# Altium footprint library Footprint_library.PcbLib: 95 footprints (part 2 of 6)
Each footprint in its own frame and in the unit in brackets; x right, y up, seen from the top. Pads: shape width x height; smd on the part's side, far side on the other; paste and mask are expansions set on the pad; w line width, h text height; cw(c..) or ccw(c..) is an arc to the next point about the centre after c.
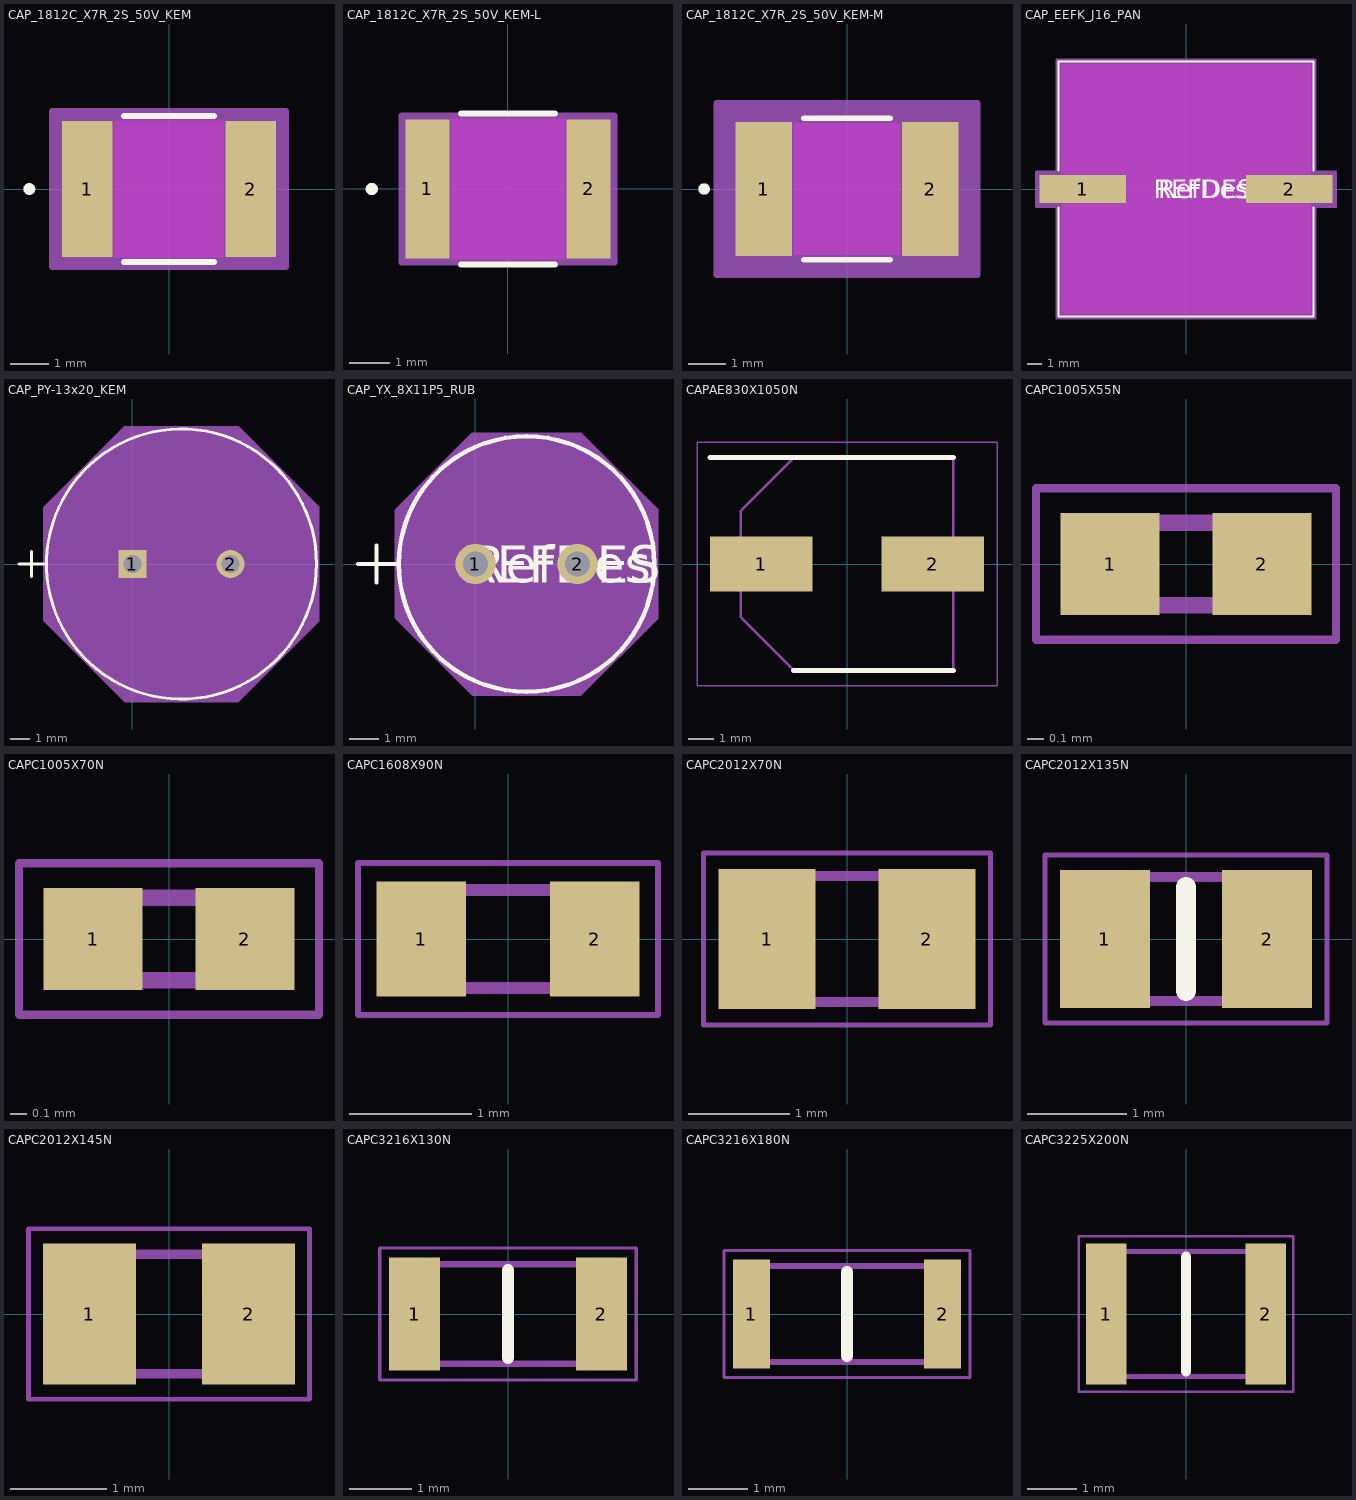
[diagram p1: the footprints below, top view; thin cyan lines are the x and y axes]

## CAP_1812C_X7R_2S_50V_KEM [mil]
pads (2):
  rect 51x138 smd paste+0 mask+0: 1(-83,0) 2(83,0)
Top Layer keep-out:
  region: -55.5,-67 -55.5,67 55.5,67 55.5,-67
Top Overlay:
  circle w6: c-141.5,0 r3
  lines w6: -45.39,-74 45.39,-74 ; -45.39,74 45.39,74
  text ".Designator" at -137.5,-25 h50
Keep-Out Layer:
  region: -55.5,-69 -55.5,69 55.5,69 55.5,-69
Mechanical 13:
  circle w1: c-78,0 r3
  lines w1: -94.5,-69 -94.5,69 ; -94.5,-69 94.5,-69 ; -94.5,-69 -57.5,-69 -57.5,69 -94.5,69 ; -94.5,-69 -94.5,69 ; -94.5,69 94.5,69 ; 94.5,-69 94.5,69 ; 94.5,-69 94.5,69 ; 94.5,-69 57.5,-69 57.5,69 94.5,69
  text ".Designator" at -137.5,-25 h50
Mechanical 15:
  region: 118.5,-79 -118.5,-79 -118.5,79 118.5,79
  lines w6: -118.5,-79 118.5,-79 118.5,79 -118.5,79 -118.5,-79
3D body "CAP_1812C_X7R_2S_50V_KEM.step": height 145.98, standoff 0, extent -94.49,-69.02 94.49,69.02

## CAP_1812C_X7R_2S_50V_KEM-L [mil]
pads (2):
  rect 43x136 smd paste+0 mask+0: 1(-79,0) 2(79,0)
Top Layer keep-out:
  region: -55.5,-67 -55.5,67 55.5,67 55.5,-67
Top Overlay:
  circle w6: c-133.5,0 r3
  lines w6: -45.85,-74 45.85,-74 ; -45.85,74 45.85,74
  text ".Designator" at -137.5,-25 h50
Keep-Out Layer:
  region: -55.5,-69 -55.5,69 55.5,69 55.5,-69
Mechanical 13:
  circle w1: c-74,0 r3
  lines w1: -94.5,-69 -94.5,69 ; -94.5,-69 -57.5,-69 -57.5,69 -94.5,69 ; -94.5,-69 94.5,-69 ; -94.5,-69 -94.5,69 ; -94.5,69 94.5,69 ; 94.5,-69 57.5,-69 57.5,69 94.5,69 ; 94.5,-69 94.5,69 ; 94.5,-69 94.5,69
  text ".Designator" at -137.5,-25 h50
Mechanical 15:
  region: 104.5,-72 -104.5,-72 -104.5,72 104.5,72
  lines w6: -104.5,-72 -104.5,72 104.5,72 104.5,-72 -104.5,-72
3D body "CAP_1812C_X7R_2S_50V_KEM.step": height 145.98, standoff 0, extent -94.49,-69.02 94.49,69.02

## CAP_1812C_X7R_2S_50V_KEM-M [mil]
pads (2):
  rect 59x140 smd paste+0 mask+0: 1(-87,0) 2(87,0)
Top Layer keep-out:
  region: -55.5,-67 -55.5,67 55.5,67 55.5,-67
Top Overlay:
  circle w6: c-149.5,0 r3
  lines w6: -45.03,-74 45.03,-74 ; -45.03,74 45.03,74
  text ".Designator" at -137.5,-25 h50
Keep-Out Layer:
  region: -55.5,-69 -55.5,69 55.5,69 55.5,-69
Mechanical 13:
  circle w1: c-82,0 r3
  lines w1: -94.5,-69 -94.5,69 ; -94.5,-69 -57.5,-69 -57.5,69 -94.5,69 ; -94.5,-69 94.5,-69 ; -94.5,-69 -94.5,69 ; -94.5,69 94.5,69 ; 94.5,-69 57.5,-69 57.5,69 94.5,69 ; 94.5,-69 94.5,69 ; 94.5,-69 94.5,69
  text ".Designator" at -137.5,-25 h50
Mechanical 15:
  region: 136.5,-90 -136.5,-90 -136.5,90 136.5,90
  lines w6: -136.5,-90 -136.5,90 136.5,90 136.5,-90 -136.5,-90
3D body "CAP_1812C_X7R_2S_50V_KEM.step": height 145.98, standoff 0, extent -94.49,-69.02 94.49,69.02

## CAP_EEFK_J16_PAN [mil]
pads (2):
  rect 233x75 smd paste+0 mask+0: 1(-277.5,0) 2(277.5,0)
Top Layer keep-out:
  region: -159,-39.5 -159,39.5 159,39.5 159,-39.5
  region: -336.5,39.5 -336.5,336.5 336.5,336.5 336.5,39.5
  region: -336.5,-336.5 -336.5,-39.5 336.5,-39.5 336.5,-336.5
Top Overlay:
  lines w6: -343.5,-50.6 -343.5,-343.5 343.5,-343.5 343.5,-50.6 ; -343.5,50.6 -343.5,343.5 343.5,343.5 343.5,50.6
  text "RefDes" at -75,-25 h50
  text "REFDES" at -87.5,-25 h50
Keep-Out Layer:
  region: -159,-39.5 -159,39.5 159,39.5 159,-39.5
Mechanical 13:
  lines w1: -338.5,-169.25 -169.25,-338.5 ; -338.5,169.25 -169.25,338.5 ; -338.5,-338.5 338.5,-338.5 338.5,338.5 -338.5,338.5 -338.5,-338.5
  text "RefDes2" at -87.5,-25 h50
Mechanical 15:
  region: -348.5,-47.5 -404,-47.5 -404,47.5 -348.5,47.5 -348.5,348.5 348.5,348.5 348.5,47.5 404,47.5 404,-47.5 348.5,-47.5 348.5,-348.5 -348.5,-348.5
  lines w6: -404,-47.5 -404,47.5 -348.5,47.5 -348.5,348.5 348.5,348.5 348.5,47.5 404,47.5 404,-47.5 348.5,-47.5 348.5,-348.5 -348.5,-348.5 -348.5,-47.5 -404,-47.5
3D body "CAP_EEFK_J16_PAN.step": height 671.1, standoff 0, extent -374.02,-338.5 374.02,338.5

## CAP_PY-13x20_KEM [mil]
pads (2):
  rect 56x56 hole 36 paste-99999 mask+0: 1(0,0)
  round 56 hole 36 paste-99999 mask+0: 2(196.85,0)
Top Overlay:
  circle w6: c98.43,0 r271
  lines w6: -227.57,0 -177.57,0 ; -202.57,-25 -202.57,25
  text ".Designator" at -39.07,-25 h50
Mechanical 13:
  circle w1: c98.43,0 r266
  lines w1: -227.57,0 -177.57,0 ; -202.57,-25 -202.57,25
  text ".Designator" at -39.07,-25 h50
Mechanical 15:
  region: -177.57,113.65 -15.22,276 212.07,276 374.43,113.65 374.43,-113.65 212.07,-276 -15.22,-276 -177.57,-113.65
  lines w1: -177.57,-113.65 -177.57,113.65 -15.22,276 212.07,276 374.43,113.65 374.43,-113.65 212.07,-276 -15.22,-276 -177.57,-113.65
3D body "CAP_PY-13x20_KEM.step": height 856.61, standoff -177.99, extent -167.56,-265.87 365.82,265.87

## CAP_YX_8X11P5_RUB [mil]
pads (2):
  round 54 / inner round 60 / far side round 54 hole 34 paste-99999 mask+0: 1(0,0) 2(137.8,0)
Top Overlay:
  circle w6: c68.9,0 r172.5
  lines w6: -158.6,0 -108.6,0 ; -133.6,-25 -133.6,25
  text "REFDES" at -18.6,-25 h50
  text "RefDes" at -6.1,-25 h50
Mechanical 13:
  circle w0: c68.9,0 r167.5
  lines w1: -158.6,0 -108.6,0 ; -133.6,-25 -133.6,25
  text "RefDes2" at -18.6,-25 h50
Mechanical 15:
  region: -108.6,73.09 -4.19,177.5 141.99,177.5 246.4,73.09 246.4,-73.09 141.99,-177.5 -4.19,-177.5 -108.6,-73.09
  lines w1: -108.6,-73.09 -108.6,73.09 -4.19,177.5 141.99,177.5 246.4,73.09 246.4,-73.09 141.99,-177.5 -4.19,-177.5 -108.6,-73.09
3D body "CAP_YX_8X11P5_RUB.step": height 512.6, standoff -172.01, extent -98.58,-167.38 237.43,167.38

## CAPAE830X1050N [mm]
pads (2):
  rect 4x2.15 smd: 1(-3.35,0) 2(3.35,0)
Top Overlay:
  lines w0.2: -5.35,4.15 4.15,4.15 ; -2.075,-4.15 4.15,-4.15
Mechanical 13:
  lines w0.1: -4.15,-2.075 -2.075,-4.15 4.15,-4.15 4.15,4.15 -2.075,4.15 -4.15,2.075 -4.15,-2.075
Mechanical 15:
  lines w0.05: -5.85,-4.75 -5.85,4.75 5.85,4.75 5.85,-4.75 -5.85,-4.75
3D body "UCD0J102MNL1GS.stp": height 10.5, standoff 0, extent -4.65,-4.25 4.65,4.25

## CAPC1005X55N [mm]
pads (2):
  rect 0.6x0.62 smd: 1(-0.46,0) 2(0.46,0)
Mechanical 13:
  lines w0.1: -0.5,-0.25 0.5,-0.25 0.5,0.25 -0.5,0.25 -0.5,-0.25
Mechanical 15:
  lines w0.05: -0.91,-0.46 0.91,-0.46 0.91,0.46 -0.91,0.46 -0.91,-0.46
3D body "GJM1555C1H4R6BB01D.stp": height 0.55, standoff 0, extent -0.5,-0.25 0.5,0.25

## CAPC1005X70N [mm]
pads (2):
  rect 0.6x0.62 smd: 1(-0.46,0) 2(0.46,0)
Mechanical 13:
  lines w0.1: -0.5,-0.25 -0.5,0.25 0.5,0.25 0.5,-0.25 -0.5,-0.25
Mechanical 15:
  lines w0.05: -0.91,-0.46 -0.91,0.46 0.91,0.46 0.91,-0.46 -0.91,-0.46
3D body "GRM155R71C103KA01D.stp": height 0.5, standoff 0, extent -0.5,-0.25 0.5,0.25

## CAPC1608X90N [mm]
pads (2):
  rect 0.73x0.94 smd: 1(-0.71,0) 2(0.71,0)
Mechanical 13:
  lines w0.1: -0.8,-0.4 -0.8,0.4 0.8,0.4 0.8,-0.4 -0.8,-0.4
Mechanical 15:
  lines w0.05: -1.225,-0.62 -1.225,0.62 1.225,0.62 1.225,-0.62 -1.225,-0.62
3D body "CL10A475KP8NNNC.stp": height 0.9, standoff 0, extent -0.8,-0.4 0.8,0.4

## CAPC2012X70N [mm]
pads (2):
  rect 0.96x1.39 smd: 1(-0.79,0) 2(0.79,0)
Mechanical 13:
  lines w0.1: -1,-0.625 1,-0.625 1,0.625 -1,0.625 -1,-0.625
Mechanical 15:
  lines w0.05: -1.42,-0.85 1.42,-0.85 1.42,0.85 -1.42,0.85 -1.42,-0.85
3D body "CC0805JRNPO9BN220.stp": height 0.7, standoff 0, extent -1,-0.625 1,0.625

## CAPC2012X135N [mm]
pads (2):
  rect 0.91x1.39 smd: 1(-0.82,0) 2(0.82,0)
Top Overlay:
  lines w0.2: 0,-0.525 0,0.525
Mechanical 13:
  lines w0.1: -1,-0.625 -1,0.625 1,0.625 1,-0.625 -1,-0.625
Mechanical 15:
  lines w0.05: -1.425,-0.85 -1.425,0.85 1.425,0.85 1.425,-0.85 -1.425,-0.85
3D body "CL21B105KBFNNNE.stp": height 1.35, standoff 0, extent -1,-0.625 1,0.625

## CAPC2012X145N [mm]
pads (2):
  rect 0.97x1.47 smd: 1(-0.83,0) 2(0.83,0)
Mechanical 13:
  lines w0.1: -1,-0.625 1,-0.625 1,0.625 -1,0.625 -1,-0.625
Mechanical 15:
  lines w0.05: -1.465,-0.89 1.465,-0.89 1.465,0.89 -1.465,0.89 -1.465,-0.89
3D body "CL21A476MQYNNNG.stp": height 1.45, standoff 0, extent -1,-0.625 1,0.625

## CAPC3216X130N [mm]
pads (2):
  rect 0.82x1.82 smd: 1(-1.5,0) 2(1.5,0)
Top Overlay:
  lines w0.2: 0,-0.7 0,0.7
Mechanical 13:
  lines w0.1: -1.6,-0.8 1.6,-0.8 1.6,0.8 -1.6,0.8 -1.6,-0.8
Mechanical 15:
  lines w0.05: -2.06,-1.06 2.06,-1.06 2.06,1.06 -2.06,1.06 -2.06,-1.06
3D body "CGA5H4C0G2J222J115AA.stp": height 1.3, standoff 0, extent -1.6,-0.8 1.6,0.8

## CAPC3216X180N [mm]
pads (2):
  rect 0.62x1.82 smd: 1(-1.6,0) 2(1.6,0)
Top Overlay:
  lines w0.2: 0,-0.7 0,0.7
Mechanical 13:
  lines w0.1: -1.6,-0.8 1.6,-0.8 1.6,0.8 -1.6,0.8 -1.6,-0.8
Mechanical 15:
  lines w0.05: -2.06,-1.06 2.06,-1.06 2.06,1.06 -2.06,1.06 -2.06,-1.06
3D body "C3216X5R1E476M160AC..stp": height 1.6, standoff 0, extent -1.6,-0.8 1.6,0.8

## CAPC3225X200N [mm]
pads (2):
  rect 0.81x2.82 smd: 1(-1.6,0) 2(1.6,0)
Top Overlay:
  lines w0.2: 0,-1.15 0,1.15
Mechanical 13:
  lines w0.1: -1.6,-1.25 -1.6,1.25 1.6,1.25 1.6,-1.25 -1.6,-1.25
Mechanical 15:
  lines w0.05: -2.155,-1.56 -2.155,1.56 2.155,1.56 2.155,-1.56 -2.155,-1.56
3D body "C3225X7R2A155K200AB.stp": height 2.5, standoff 0, extent -1.6,-1.25 1.6,1.25